# EAGLE library part GMSTBA6 (library con-phoenix-762)
PHOENIX
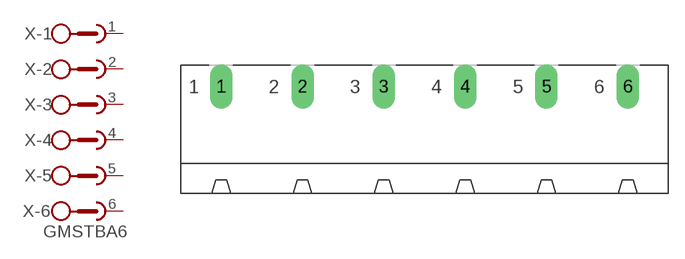
[diagram p0: symbol with the pads of GMSTBA6; footprint GMSTBA6]

Designator prefix X; gates -1=SKB -2=SKB -3=SKB -4=SKB -5=SKB -6=SKBV

## GMSTBA6  [GMSTBA6]
1  -1:1  pas
2  -2:1  pas
3  -3:1  pas
4  -4:1  pas
5  -5:1  pas
6  -6:1  pas

## Footprint GMSTBA6 (pad centres in mm)
PHOENIX
drill 1.397 long: 1 -19.05,5.08; 2 -11.43,5.08; 3 -3.81,5.08; 4 3.81,5.08; 5 11.43,5.08; 6 19.05,5.08